# Altium footprint library PcbLib2.PcbLib: 2 footprints
Each footprint in its own frame and in the unit in brackets; x right, y up, seen from the top. Pads: shape width x height; smd on the part's side, far side on the other; paste and mask are expansions set on the pad; w line width, h text height; cw(c..) or ccw(c..) is an arc to the next point about the centre after c.
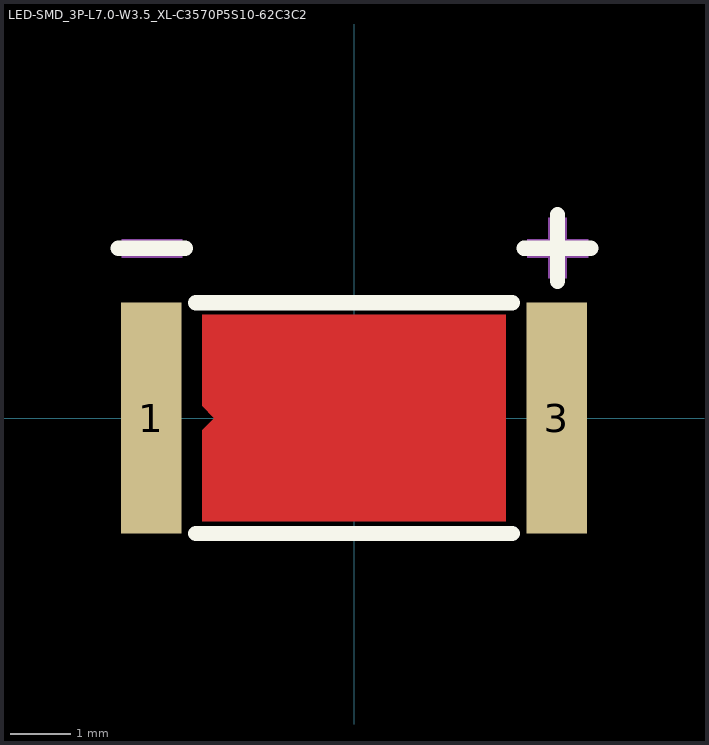
[diagram p0: the footprints below, top view; thin cyan lines are the x and y axes]

## LED-SMD_3P-L7.0-W3.5_XL-C3570P5S10-62C3C2 [mm]
pads (2):
  rect 1x3.8 smd: 1(-3.34,0) 3(3.34,0)
Top Layer:
  region: -2.5,1.7 2.5,1.7 2.5,-1.7 -2.5,-1.7 -2.5,-0.2 -2.3,0 -2.5,0.2
Top Overlay:
  lines w0.254: -3.88,2.8 -2.78,2.8 ; -2.609,-1.9 2.609,-1.9 ; -2.609,1.9 2.609,1.9 ; 2.8,2.8 3.9,2.8 ; 3.352,2.253 3.352,3.353
Top Paste:
  region: -2.5,1.7 2.5,1.7 2.5,-1.7 -2.5,-1.7 -2.5,-0.2 -2.3,0 -2.5,0.2
Top Solder:
  region: -2.5,1.7 2.5,1.7 2.5,-1.7 -2.5,-1.7 -2.5,-0.2 -2.3,0 -2.5,0.2
Mechanical 15:
  region: 3.2,2.3 3.2,3.3 3.5,3.3 3.5,2.3
  region: 3.854,2.644 2.854,2.644 2.854,2.944 3.854,2.944
  region: -2.826,2.644 -3.826,2.644 -3.826,2.944 -2.826,2.944

## PCBComponent_1 [mm]